# EAGLE library part RASPBERRY-PI (library FillControl)
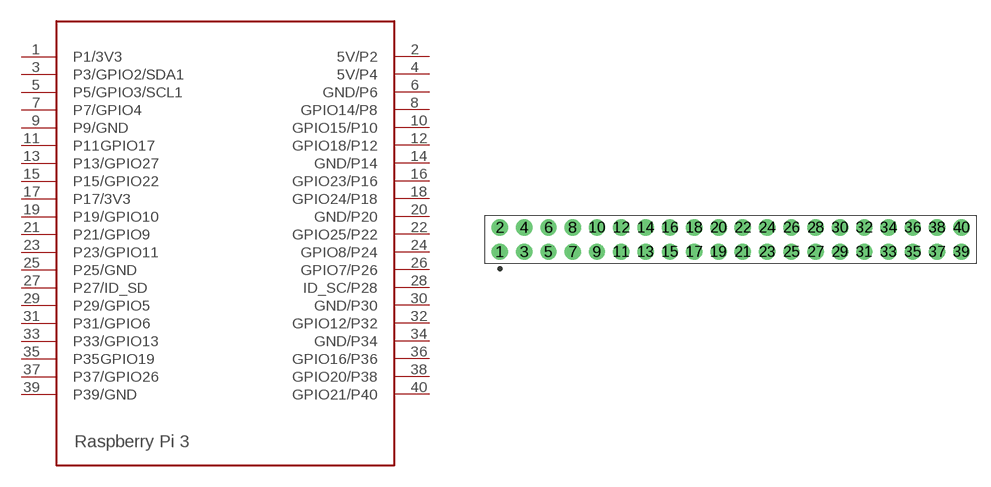
[diagram p0: symbol with the pads of 2X20_FEMALE_HEADER; footprint 2X20_FEMALE_HEADER]

Designator prefix -

## RASPBERRY-PI  [2X20_FEMALE_HEADER]
1  P1/3V3
2  5V/P2
3  P3/GPIO2/SDA1
4  5V/P4
5  P5/GPIO3/SCL1
6  GND/P6
7  P7/GPIO4
8  GPIO14/P8
9  P9/GND
10  GPIO15/P10
11  P11GPIO17
12  GPIO18/P12
13  P13/GPIO27
14  GND/P14
15  P15/GPIO22
16  GPIO23/P16
17  P17/3V3
18  GPIO24/P18
19  P19/GPIO10
20  GND/P20
21  P21/GPIO9
22  GPIO25/P22
23  P23/GPIO11
24  GPIO8/P24
25  P25/GND
26  GPIO7/P26
27  P27/ID_SD
28  ID_SC/P28
29  P29/GPIO5
30  GND/P30
31  P31/GPIO6
32  GPIO12/P32
33  P33/GPIO13
34  GND/P34
35  P35GPIO19
36  GPIO16/P36
37  P37/GPIO26
38  GPIO20/P38
39  P39/GND
40  GPIO21/P40

## Footprint 2X20_FEMALE_HEADER (pad centres in mm)
Double-row, 40-pin Receptacle Header (Female) Straight, 2.54 mm (0.10 in) row pitch, 2.54 mm (0.10 in) col pitch, 8.51 mm insulator length, 51.35 X 5.08 X 8.51 mm body Double-row (2X20), 40-pin Receptacle Header (Female) Straight package with 2.54 mm (0.10 in) row pitch, 2.54 mm (0.10 in) col pitch, 0.64 mm lead width, 3.00 mm tail length and 8.51 mm insulator length with overall size 51.35 X 5.08 X 8.51 mm, pin pattern - zigzag from bottom left
drill 1.105 pad 1.705: 1 -24.13,-1.27; 2 -24.13,1.27; 3 -21.59,-1.27; 4 -21.59,1.27; 5 -19.05,-1.27; 6 -19.05,1.27; 7 -16.51,-1.27; 8 -16.51,1.27; 9 -13.97,-1.27; 10 -13.97,1.27; 11 -11.43,-1.27; 12 -11.43,1.27; 13 -8.89,-1.27; 14 -8.89,1.27; 15 -6.35,-1.27; 16 -6.35,1.27; 17 -3.81,-1.27; 18 -3.81,1.27; 19 -1.27,-1.27; 20 -1.27,1.27; 21 1.27,-1.27; 22 1.27,1.27; 23 3.81,-1.27; 24 3.81,1.27; 25 6.35,-1.27; 26 6.35,1.27; 27 8.89,-1.27; 28 8.89,1.27; 29 11.43,-1.27; 30 11.43,1.27; 31 13.97,-1.27; 32 13.97,1.27; 33 16.51,-1.27; 34 16.51,1.27; 35 19.05,-1.27; 36 19.05,1.27; 37 21.59,-1.27; 38 21.59,1.27; 39 24.13,-1.27; 40 24.13,1.27